# Altium footprint library SOIC127P700X220-8N.PcbLib: 1 footprints
Each footprint in its own frame and in the unit in brackets; x right, y up, seen from the top. Pads: shape width x height; smd on the part's side, far side on the other; paste and mask are expansions set on the pad; w line width, h text height; cw(c..) or ccw(c..) is an arc to the next point about the centre after c.
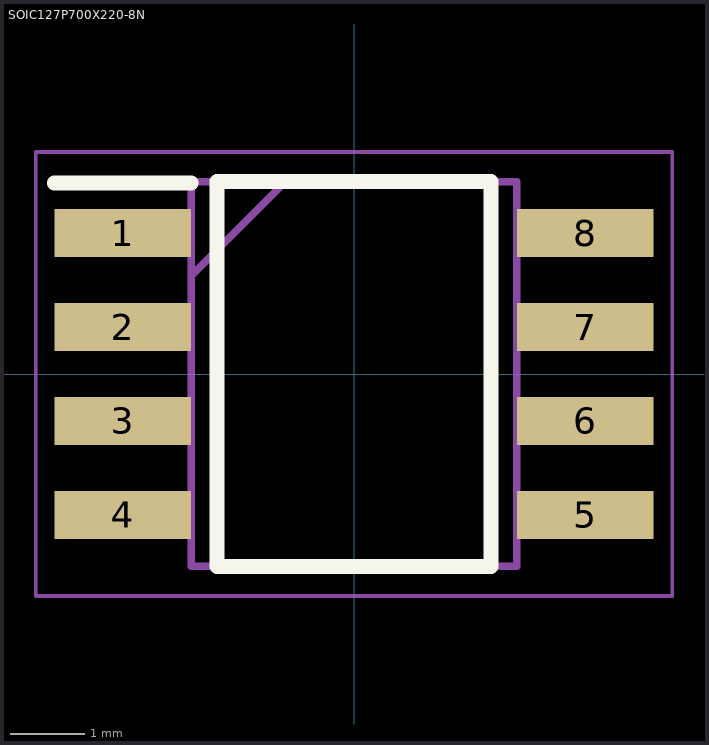
[diagram p0: the footprint, top view; thin cyan lines are the x and y axes]

## SOIC127P700X220-8N [mm]
pads (8):
  rect 1.85x0.65 smd: 1(-3.125,1.905) 2(-3.125,0.635) 3(-3.125,-0.635) 4(-3.125,-1.905) 5(3.125,-1.905) 6(3.125,-0.635) 7(3.125,0.635) 8(3.125,1.905)
Top Overlay:
  lines w0.2: -4.05,2.58 -2.2,2.58 ; -1.85,-2.6 1.85,-2.6 1.85,2.6 -1.85,2.6 -1.85,-2.6
Mechanical 15:
  lines w0.1: -2.2,1.33 -0.93,2.6 ; -2.2,-2.6 2.2,-2.6 2.2,2.6 -2.2,2.6 -2.2,-2.6
Mechanical 20:
  lines w0.05: -4.3,-3 4.3,-3 4.3,3 -4.3,3 -4.3,-3